# Altium schematic symbol library TG21_TX_Xu ly ma tran phim.SCHLIB: 40 symbols
Pins are listed as number, name and electrical type; pins without a type are passive.

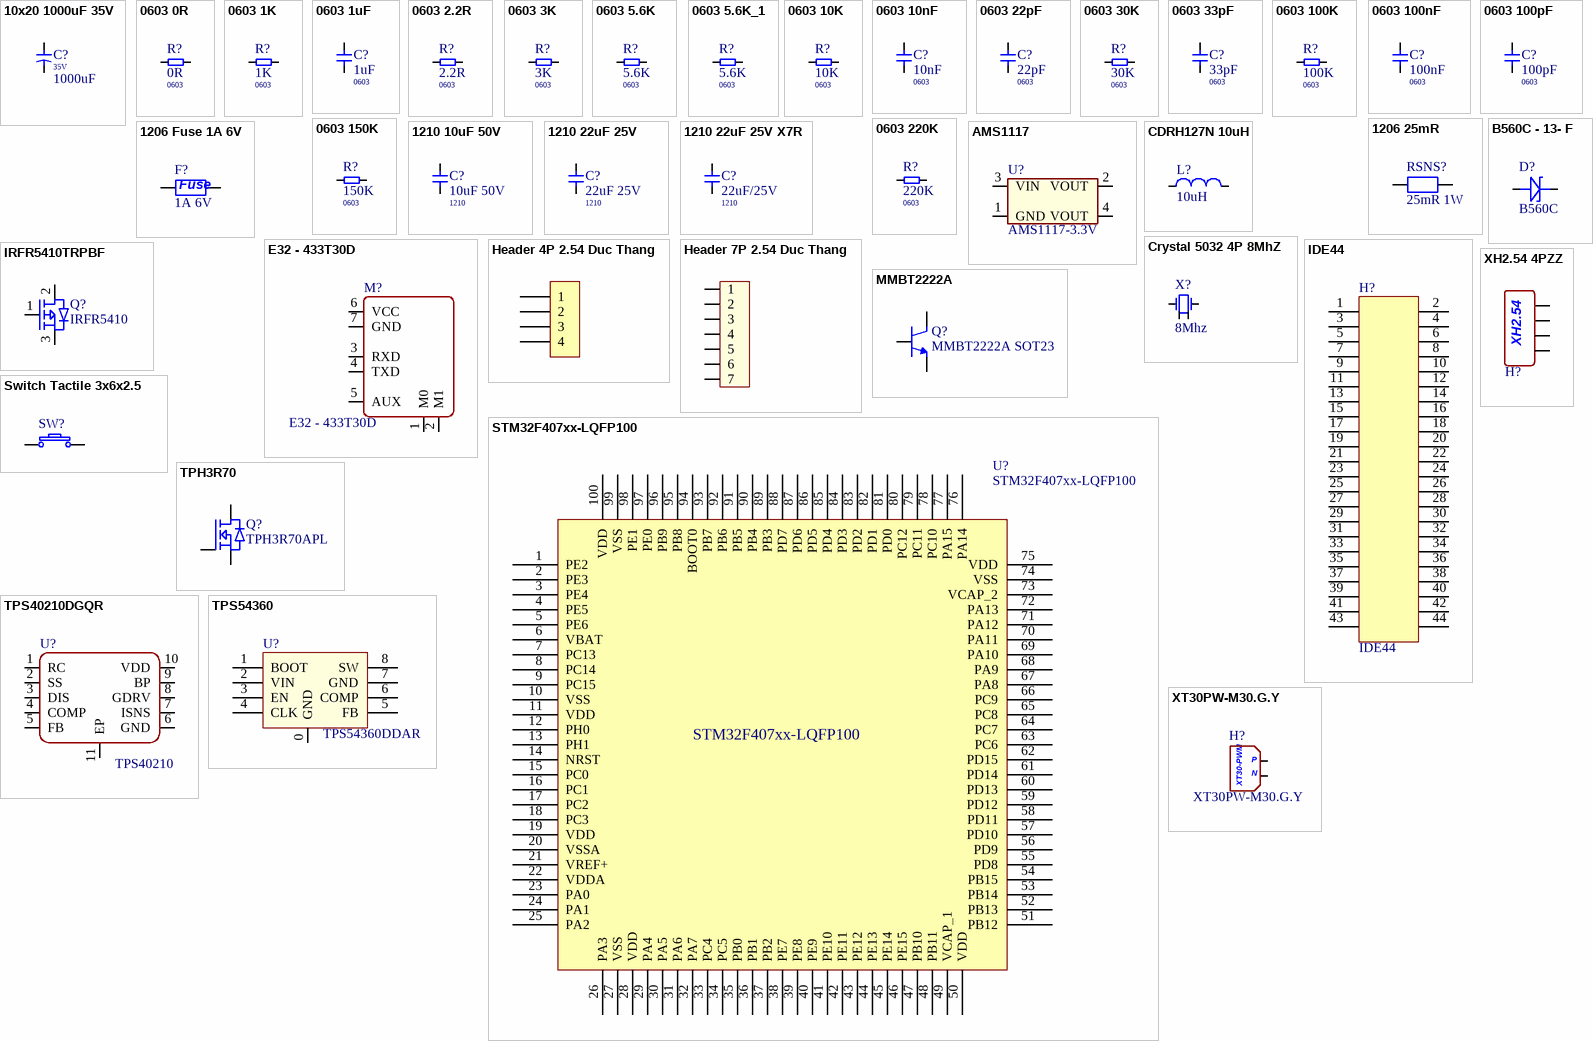
[diagram p0: symbols 10x20 1000uF 35V to XT30PW-M30.G.Y]

## 10x20 1000uF 35V
designator C?, comment Voltage: 35V  Capacitor: 1000uF  (hidden comment: 1000uF/35V)
1000uF 35V Aluminum Electrolytic Capacitors Through Hole,D10xL20mm 2000hrs@105℃; Manufacturer: Rubycon; Mfr. Part #: 35PX1000MEFC10X20; LCSC Part #: C136014; ComponentLink1Description: LCSC Link; ComponentLink1URL: https://www.lcsc.com/product-detail/C136014.html?s_z=n_35V%25201000uF%2520rubycon; Package: Through Hole,D10xL20mm; Type: Capacitor; Assembly Type: DIP Assembly
footprint 10x20 5.0 Capacitor
pins: 1, 2

## 0603 0R
designator R?, comment 0R  Package: 0603
100mW 0Ω 75V Thick Film Resistor ±1% ±100ppm/℃ 0603 Chip Resistor - Surface Mount RoHS; Mfr. Part #: RC0603FR-070RL; Manufacturer: YAGEO; LCSC Part #: C100044; ComponentLink1Description: LCSC Link; ComponentLink1URL: https://www.lcsc.com/product-detail/C100044.html?s_z=n_0R%25201%2525%25200603&spm=wm.ssy.bg.1.xh&lcsc_vid=FVcIBVBRElIPBFdUFgBYX10HEQJbUQVVQANfV1wFQQcxVlNRQ1RWVFVVRFVbUzsOAxUeFF5JWBYZEEoKFBINSQcJGk4dAgUUFAk%3D; Value: 0R
footprint 0603 Resistors
pins: 1, 2

## 0603 1K
designator R?, comment 1K  Package: 0603
100mW 1kΩ 75V Thick Film Resistor ±1% ±100ppm/℃ 0603 Chip Resistor - Surface Mount RoHS; Mfr. Part #: CRCW06031K00FKEA; Manufacturer: VISHAY; LCSC Part #: C844920; ComponentLink1Description: LCSC Link; ComponentLink1URL: https://www.lcsc.com/product-detail/C844920.html?s_z=n_0603%25201K; Value: 1K
footprint 0603 Resistors
pins: 1, 2

## 0603 1uF
designator C?, comment 1uF  Package: 0603
1uF ±10% 50V Ceramic Capacitor X5R 0603; Manufacturer: Samsung Electro-Mechanics; Mfr. Part #: CL10A105KB8NNNC; LCSC Part #: C15849; ComponentLink1Description: LCSC Link; ComponentLink1URL: https://www.lcsc.com/product-detail/C15849.html?s_z=n_1uF%25200603%25201%2525&spm=wm.ssy.bg.0.xh&lcsc_vid=FVcIBVBRElIPBFdUFgBYX10HEQJbUQVVQANfV1wFQQcxVlNRQlFeXlNXT1hdUDsOAxUeFF5JWBYZEEoKFBINSQcJGk4%3D
footprint 0603 MLCC
pins: 1, 2

## 0603 2.2R
designator R?, comment 2.2R  Package: 0603
100mW 2.2Ω 75V Thick Film Resistor ±1% ±100ppm/℃ 0603 Chip Resistor - Surface Mount RoHS; Mfr. Part #: FRC0805F2R20TS; Manufacturer: FOJAN; LCSC Part #: C2933402; ComponentLink1Description: LCSC Link; ComponentLink1URL: https://www.lcsc.com/product-detail/C2933402.html?s_z=n_2.2R%25201%2525&spm=wm.ssy.bg.6.xh&lcsc_vid=FVcIBVBRElIPBFdUFgBYX10HEQJbUQVVQANfV1wFQQcxVlNRQ1hYUFNVRlVWUzsOAxUeFF5JWBYZEEoKFBINSQcJGk4dAgUUFAk%3D; Value: 2.2R
footprint 0603 Resistors
pins: 1, 2

## 0603 3K
designator R?, comment 3K  Package: 0603
3kΩ ±1% 100mW 0603 Thick Film Resistor; Mfr. Part #: 0805W8F7503T5E; Manufacturer: UNI-ROYAL; LCSC Part #: C17817; ComponentLink1Description: LCSC Link; ComponentLink1URL: https://www.lcsc.com/product-detail/C2907033.html?s_z=n_3K%25201%2525%25200603&spm=wm.ssy.bg.0.xh&lcsc_vid=FVcIBVBRElIPBFdUFgBYX10HEQJbUQVVQANfV1wFQQcxVlNRQVBYUlZWRlRaUjsOAxUeFF5JWBYZEEoKFBINSQcJGk4dAgUUFAk%3D; ComponentLink2Description: Datasheet; ComponentLink2URL: https://www.lcsc.com/datasheet/C2907033.pdf?spm=wm.sxq.inf.ggs___wm.ssy.bg.0.xh&lcsc_vid=FVcIBVBRElIPBFdUFgBYX10HEQJbUQVVQANfV1wFQQcxVlNRQVBYUlZWRlRaUjsOAxUeFF5JWBYZEEoKFBINSQcJGk4dAgUUFAk%3D; Type: Resistor; Assembly Type: SMT Assembly; Value: 3K
footprint 0603 Resistors
pins: 1, 2

## 0603 5.6K
designator R?, comment 5.6K  Package: 0603
100mW 5.6KΩ 75V Thick Film Resistor ±1% ±100ppm/℃ 0603 Chip Resistor - Surface Mount RoHS; Mfr. Part #: FRC0603F5601TS; Manufacturer: FOJAN; Value: 5.1K; LCSC Part #: C2907046; ComponentLink1Description: LCSC Link; ComponentLink1URL: https://www.lcsc.com/product-detail/C2907046.html?s_z=n_5.6K%25200603&spm=wm.ssy.bg.0.xh&lcsc_vid=FVcIBVBRElIPBFdUFgBYX10HEQJbUQVVQANfV1wFQQcxVlNRQ1RWV1FeQVlfVDsOAxUeFF5JWBYZEEoKFBINSQcJGk4eFQsCAgIaSgADAwAHC0slQ1VdUFNIHxUDCw%3D%3D
footprint 0603 Resistors
pins: 1, 2

## 0603 5.6K_1
designator R?, comment 5.6K  Package: 0603
100mW 5.6KΩ 75V Thick Film Resistor ±1% ±100ppm/℃ 0603 Chip Resistor - Surface Mount RoHS; Mfr. Part #: FRC0603F5601TS; Manufacturer: FOJAN; LCSC Part #: C2907046; ComponentLink1Description: LCSC Link; ComponentLink1URL: https://www.lcsc.com/product-detail/C2907046.html?s_z=n_5.6K%25200603&spm=wm.ssy.bg.0.xh&lcsc_vid=FVcIBVBRElIPBFdUFgBYX10HEQJbUQVVQANfV1wFQQcxVlNRQ1RWV1FeQVlfVDsOAxUeFF5JWBYZEEoKFBINSQcJGk4eFQsCAgIaSgADAwAHC0slQ1VdUFNIHxUDCw%3D%3D; Value: 5.6K
footprint 0603 Resistors
pins: 1, 2

## 0603 10K
designator R?, comment 10K  Package: 0603
100mW 10kΩ 75V Thick Film Resistor ±1% ±100ppm/℃ 0603 Chip Resistor - Surface Mount RoHS; Manufacturer: VISHAY; Mfr. Part #: CRCW060310K0FKEA; LCSC Part #: C844918; ComponentLink1Description: LCSC Link; ComponentLink1URL: https://www.lcsc.com/product-detail/C844918.html?s_z=n_10K
footprint 0603 Resistors
pins: 1, 2

## 0603 10nF
designator C?, comment 10nF  Package: 0603
10nF ±10% 50V Ceramic Capacitor X7R 0603; Manufacturer: YAGEO; Mfr. Part #: CC0603KRX7R9BB103; LCSC Part #: C100042; ComponentLink1Description: LCSC Link; ComponentLink1URL: https://www.lcsc.com/product-detail/C100042.html?s_z=n_0603%252010nF&spm=wm.ssy.bg.0.xh&lcsc_vid=FVcIBVBRElIPBFdUFgBYX10HEQJbUQVVQANfV1wFQQcxVlNRQlFfVVBSRVNYXjsOAxUeFF5JWBYZEEoKFBINSQcJGk4eFQsCAgIaSgADAwAHC0slRFFaV1JQWQkaCgg%3D
footprint 0603 MLCC
pins: 1, 2

## 0603 22pF
designator C?, comment 22pF  Package: 0603
22pF ±5% 50V Ceramic Capacitor C0G 0603; Manufacturer: Samsung Electro-Mechanics; Mfr. Part #: CL10C220JB8NNNC; LCSC Part #: C1653; ComponentLink1Description: LCSC Link; ComponentLink1URL: https://www.lcsc.com/product-detail/C1653.html?s_z=n_22pF%252050V%25200603
footprint 0603 MLCC
pins: 1, 2

## 0603 30K
designator R?, comment 30K  Package: 0603
30kΩ ±1% 100mW 0603 Thick Film Resistor; Mfr. Part #: FRC0603F3002TS; Manufacturer: FOJAN; LCSC Part #: C2907025; ComponentLink1Description: LCSC Link; ComponentLink1URL: https://www.lcsc.com/product-detail/C2907025.html?s_z=n_q_t_0603%252030K&spm=wm.fly.bg.0.xh___wm.ssy.tc.0.tz&lcsc_vid=QQBdBlYAQFFWUgBXTlUPAgFQQQIIBQIHEQIPAgJRQFAxVlNRT1daV1JVTlhbUzsOAxUeFF5JWBYZEEoKFBINSQcJGk4dAgUUFAk%3D; ComponentLink2Description: Datasheet; ComponentLink2URL: https://www.lcsc.com/datasheet/C2907025.pdf?spm=wm.sxq.inf.ggs___wm.fly.bg.0.xh&lcsc_vid=QQBdBlYAQFFWUgBXTlUPAgFQQQIIBQIHEQIPAgJRQFAxVlNRT1daV1JVTlhbUzsOAxUeFF5JWBYZEEoKFBINSQcJGk4dAgUUFAk%3D; Type: Resistor; Assembly Type: SMT Assembly; Value: 30K
footprint 0603 Resistors
pins: 1, 2

## 0603 33pF
designator C?, comment 33pF  Package: 0603
33pF ±5% 50V Ceramic Capacitor NP0 0603; Manufacturer: YAGEO; Mfr. Part #: CC0603JRNPO9BN330; LCSC Part #: C107047; ComponentLink1Description: LCSC Link; ComponentLink1URL: https://www.lcsc.com/product-detail/C107047.html?s_z=n_33pF%25200603&spm=wm.ssy.bg.0.xh&lcsc_vid=FVcIBVBRElIPBFdUFgBYX10HEQJbUQVVQANfV1wFQQcxVlNRQ1RWV1xeR1ZZUTsOAxUeFF5JWBYZEEoKFBINSQcJGk4dAgUUFAk%3D
footprint 0603 MLCC
pins: 1, 2

## 0603 100K
designator R?, comment 100K  Package: 0603
100mW 100KΩ 75V Thick Film Resistor ±1% ±100ppm/℃ 0603 Chip Resistor - Surface Mount RoHS; Mfr. Part #: FRC0603F1003TS; Manufacturer: FOJAN; LCSC Part #: C2906980; ComponentLink1Description: LCSC Link; ComponentLink1URL: https://www.lcsc.com/product-detail/C2906980.html?s_z=n_0603%25201%2525%2520100K; Value: 100K
footprint 0603 Resistors
pins: 1, 2

## 0603 100nF
designator C?, comment 100nF  Package: 0603
100nF ±10% 50V Ceramic Capacitor X7R 0603; Manufacturer: YAGEO; Mfr. Part #: CC0603KRX7R9BB104; LCSC Part #: C14663; ComponentLink1Description: LCSC Link; ComponentLink1URL: https://www.lcsc.com/product-detail/C14663.html?s_z=n_0603%2520100nF
footprint 0603 MLCC
pins: 1, 2

## 0603 100pF
designator C?, comment 100pF  Package: 0603
100pF ±5% 50V Ceramic Capacitor C0G 0603; Manufacturer: Samsung Electro-Mechanics; Mfr. Part #: CL10C101JB8NNNC; LCSC Part #: C14858; ComponentLink1Description: LCSC Link; ComponentLink1URL: https://www.lcsc.com/product-detail/C14858.html?s_z=n_100pF%25200603&spm=wm.ssy.bg.0.xh&lcsc_vid=FVcIBVBRElIPBFdUFgBYX10HEQJbUQVVQANfV1wFQQcxVlNRQ1RWV1NSQ1dXXjsOAxUeFF5JWBYZEEoKFBINSQcJGk4eFQsCAgIaSgADAwAHC0slRVheUFRSQU8GEwkK
footprint 0603 MLCC
pins: 1, 2

## 0603 150K
designator R?, comment 150K  Package: 0603
100mW 150KΩ 75V Thick Film Resistor ±1% ±100ppm/℃ 0603 Chip Resistor - Surface Mount RoHS; Mfr. Part #: 0603WAF1503T5E; Manufacturer: UNI-ROYAL; LCSC Part #: C22807; ComponentLink1Description: LCSC Link; ComponentLink1URL: https://www.lcsc.com/product-detail/C22807.html?s_z=n_0603%25201%2525%2520150K; Value: 150K
footprint 0603 Resistors
pins: 1, 2

## 0603 220K
designator R?, comment 220K  Package: 0603
100mW 220KΩ 75V Thick Film Resistor ±1% ±100ppm/℃ 0603 Chip Resistor - Surface Mount RoHS; Mfr. Part #: FRC0603F2203TS; Manufacturer: FOJAN; LCSC Part #: C2907013; ComponentLink1Description: LCSC Link; ComponentLink1URL: https://www.lcsc.com/product-detail/C2907013.html?s_z=n_0603%25201%2525%2520220K; Value: 220K
footprint 0603 Resistors
pins: 1, 2

## 1206 25mR
designator RSNS?, comment 25mR 1W
1W 25mΩ ±50ppm/℃ ±1% 1206 Chip Resistor - Surface Mount RoHS; Manufacturer: JIERR; Mfr. Part #: JER1206F1R025; LCSC Part #: C46634441; Package: 1206; ComponentLink1Description: LCSC Link; ComponentLink1URL: https://www.lcsc.com/product-detail/C46634441.html?s_z=n_25mR%25201W&spm=wm.ssy.bg.1.stp&lcsc_vid=FVcIBVBRElIPBFdUFgBYX10HEQJbUQVVQANfV1wFQQcxVlNRQVBYVlFWT1lXVzsOAxUeFF5JWBYZEEoKFBINSQcJGk4eFQsCAgIaSgADAwAHC0slRlVZVVxIHxUDCw%3D%3D; ComponentLink2Description: Datasheet; ComponentLink2URL: https://www.lcsc.com/datasheet/C46634441.pdf?spm=wm.sxq.inf.ggs___wm.ssy.bg.1.stp&lcsc_vid=FVcIBVBRElIPBFdUFgBYX10HEQJbUQVVQANfV1wFQQcxVlNRQVBYVlFWT1lXVzsOAxUeFF5JWBYZEEoKFBINSQcJGk4eFQsCAgIaSgADAwAHC0slRlVZVVxIHxUDCw%3D%3D
footprint 1206 Resistor
pins: 1, 2

## 1206 Fuse 1A 6V
designator F?, comment 1A 6V
Polymeric PTC Resettable Fuse 6V 1A Surface Mount 1206; Manufacturer: BHFUSE; Mfr. Part #: BSMD1206-100-6V; LCSC Part #: C883129; Package: 1206; ComponentLink1Description: LCSC Link; ComponentLink1URL: https://www.lcsc.com/product-detail/C883129.html?s_z=n_q_Resettable%2520Fuse%25206V%25201A%25201206&spm=wm.fly.bg.0.xh&lcsc_vid=QQBdBlYAQFFWUgBXTlUPAgFQQQIIBQIHEQIPAgJRQFAxVlNRT1daVVdeT1JfUzsOAxUeFF5JWBYZEEoKFBINSQcJGk4NBhADEA4cHktXRVZADxALGw%3D%3D; ComponentLink2Description: Datasheet; ComponentLink2URL: NO; Type: Fuse; Assembly Type: SMT Assembly
footprint 1206 - Fuse
pins: 1, 2

## 1210 10uF 50V
designator C?, comment 10uF 50V  Package: 1210
10uF ±10% 50V Ceramic Capacitor X7R 1210; Manufacturer: Samsung Electro-Mechanics; Mfr. Part #: CL32B106KBJNNNE; LCSC Part #: C138687; ComponentLink1Description: LCSC Link; ComponentLink1URL: https://www.lcsc.com/product-detail/C138687.html?s_z=n_1210%252010uF
footprint 1210 CAPACITOR
pins: 1, 2

## 1210 22uF 25V
designator C?, comment 22uF 25V  Package: 1210
22uF ±10% 25V Ceramic Capacitor X7R 1210; Manufacturer: Samsung Electro-Mechanics; Mfr. Part #: CL32B226KAJNNNE; LCSC Part #: C309062; ComponentLink1Description: LCSC Link; ComponentLink1URL: https://www.lcsc.com/product-detail/C309062.html?s_z=n_22uF%25201210
footprint 1210 CAPACITOR
pins: 1, 2

## 1210 22uF 25V X7R
designator C?, comment 22uF/25V  Package: 1210
22uF ±10% 25V Ceramic Capacitor X7R 1210; Manufacturer: Samsung Electro-Mechanics; Mfr. Part #: CL32B226KAJNNNE; LCSC Part #: C309062; ComponentLink1Description: LCSC Link; ComponentLink1URL: https://www.lcsc.com/product-detail/C309062.html?s_z=n_22uF%25201210
footprint 1210 CAPACITOR
pins: 1, 2

## AMS1117
designator U?, comment AMS1117-3.3V
1.2A Fixed 3.3V Positive 15V SOT-223 Voltage Regulators - Linear, Low Drop Out (LDO) Regulators ROHS
footprint SOT223 - 4P
pins: 1 GND, 2 VOUT, 3 VIN, 4 VOUT

## B560C - 13- F
designator D?, comment B560C
Voltage： 60V Current： 5A; Manufacturer: DIODES; Mfr. Part #: B560C-13-F; LCSC Part #: C85100; Package: SMC(DO-214AB); ComponentLink1Description: LCSC Link; ComponentLink1URL: https://www.lcsc.com/product-detail/C85100.html?s_z=n_B560C
footprint SMC(DO-214AB)
pins: 1 Anode, 2 Kathode

## CDRH127N 10uH
designator L?, comment 10uH
5.4A 10uH 21.6mΩ ±20% SMD,12.2x12.2mm Fixed Inductors RoHS; Manufacturer: MINGSTAR; Mfr. Part #: CDRH127N-100M; LCSC Part #: C2832085; Package: SMD,12.2x12.2mm; ComponentLink1Description: LCSC Link; ComponentLink1URL: http://lcsc.com/product-detail/C2832085.html?s_z=n_CDRH127
footprint 12.2x12.2mm
pins: 1, 2

## Crystal 5032 4P 8MhZ
designator X?, comment 8Mhz
Crystal 8MHz ±20ppm 12pF SMD5032-4P; Manufacturer: SOSET; Mfr. Part #: 5032 8M 12PF 20PPM 4P; LCSC Part #: C5181482; Package: SMD5032-4P; ComponentLink1Description: LCSC Link; ComponentLink1URL: https://www.lcsc.com/product-detail/C5181482.html?s_z=n_5032%25208m
footprint 5032 4P
pins: 1, 2, 3, 4

## E32 - 433T30D
designator M?
8km UART Through Hole RF Transceiver Modules and Modems RoHS; Manufacturer: EBYTE; Mfr. Part #: E32-433T30D; LCSC Part #: C97351; Package: Through Hole; Type: Module; ComponentLink1Description: LCSC Link; ComponentLink1URL: https://www.lcsc.com/product-detail/C97351.html?s_z=n_E32%2520433T30D; ComponentLink2Description: Datasheet; ComponentLink2URL: https://www.lcsc.com/datasheet/C97351.pdf
footprint E32 - 433T30D
pins: 1 M0, 2 M1, 3 RXD, 4 TXD, 5 AUX, 6 VCC, 7 GND

## Header 4P 2.54 Duc Thang
designator H?
Cắm; Ten_Linh_Kien: Header 4P XH2.54-4P Đực Thẳng; Don_Vi: Con; Ma_Hang: MH001285; Chung_Loai: Cắm
footprint XH2.54M-4
pins: 1, 2, 3, 4

## Header 7P 2.54 Duc Thang
designator H?  (value not drawn)
Cắm; Ten_Linh_Kien: Header 7P XH2.54-7P Đực Thẳng; Don_Vi: Con; Ma_Hang: MH003369; Chung_Loai: Cắm
footprint XH2.54M-7
pins: 1, 2, 3, 4, 5, 6, 7

## IDE44
designator H?
footprint IDE
pins: 1, 2, 3, 4, 5, 6, 7, 8, 9, 10, 11, 12, 13, 14, 15, 16, 17, 18, 19, 20, 21, 22, 23, 24, 25, 26, 27, 28, 29, 30, 31, 32, 33, 34, 35, 36, 37, 38, 39, 40, 41, 42, 43, 44

## IRFR5410TRPBF
designator Q?, comment IRFR5410
P-Channel 100V 13A 66W Surface Mount DPAK(TO-252AA); Manufacturer: Infineon; Mfr. Part #: IRFR5410TRPBF; LCSC Part #: C3018; Package: DPAK(TO-252AA); ComponentLink1Description: LCSC Link; ComponentLink1URL: https://www.lcsc.com/product-detail/C3018.html?s_z=n_IRFR5410TRPBF
footprint TO - 252
pins: 1 G, 2 D, 3 S

## MMBT2222A
designator Q?, comment MMBT2222A SOT23
Bipolar (BJT) Transistor NPN 20V 350mA 300MHz 300mW Surface Mount SOT-23; Manufacturer: JSMSEMI; Mfr. Part #: MMBT2222A; LCSC Part #: C916372; Package: SOT-23; ComponentLink1Description: LCSC Link; ComponentLink1URL: https://www.lcsc.com/product-detail/C916372.html?s_z=n_mmbt222&spm=wm.ssy.bg.4.xh&lcsc_vid=FVcIBVBRElIPBFdUFgBYX10HEQJbUQVVQANfV1wFQQcxVlNRQ1hYVFJVRlldXjsOAxUeFF5JWBYZEEoKFBINSQcJGk4dAgUUFAk%3D
footprint SOT23_HVT
pins: 1 B, 2 E, 3 C

## STM32F407xx-LQFP100
designator U?
footprint STM32_LQFP100 (TSQFP, 100-Leads, Body 14.00x14.00mm, Pitch 0.50mm, IPC Medium Density)
pins: 1 PE2, 2 PE3, 3 PE4, 4 PE5, 5 PE6, 6 VBAT, 7 PC13, 8 PC14, 9 PC15, 10 VSS, 11 VDD, 12 PH0, 13 PH1, 14 NRST, 15 PC0, 16 PC1, 17 PC2, 18 PC3, 19 VDD, 20 VSSA, 21 VREF+, 22 VDDA, 23 PA0, 24 PA1, 25 PA2, 26 PA3, 27 VSS, 28 VDD, 29 PA4, 30 PA5, 31 PA6, 32 PA7, 33 PC4, 34 PC5, 35 PB0, 36 PB1, 37 PB2, 38 PE7, 39 PE8, 40 PE9, 41 PE10, 42 PE11, 43 PE12, 44 PE13, 45 PE14, 46 PE15, 47 PB10, 48 PB11, 49 VCAP_1, 50 VDD, 51 PB12, 52 PB13, 53 PB14, 54 PB15, 55 PD8, 56 PD9, 57 PD10, 58 PD11, 59 PD12, 60 PD13, 61 PD14, 62 PD15, 63 PC6, 64 PC7, 65 PC8, 66 PC9, 67 PA8, 68 PA9, 69 PA10, 70 PA11, 71 PA12, 72 PA13, 73 VCAP_2, 74 VSS, 75 VDD, 76 PA14, 77 PA15, 78 PC10, 79 PC11, 80 PC12, 81 PD0, 82 PD1, 83 PD2, 84 PD3, 85 PD4, 86 PD5, 87 PD6, 88 PD7, 89 PB3, 90 PB4, 91 PB5, 92 PB6, 93 PB7, 94 BOOT0, 95 PB8, 96 PB9, 97 PE0, 98 PE1, 99 VSS, 100 VDD

## Switch Tactile 3x6x2.5
designator SW?, comment HX 3x6x2.5A-2.5N  (value not drawn)
Tactile Switch SPST 250gf 2.5mm SMD (SMT) Tab 6mm x 3.6mm Surface Mount; Manufacturer: hanxia; Mfr. Part #: HX 3x6x2.5A-2.5N; LCSC Part #: C36498960; Package: SMD,6x3mm; ComponentLink1Description: LCSC Link; ComponentLink1URL: https://www.lcsc.com/product-detail/C36498960.html?s_z=n_q_p_3x6x2.5&spm=wm.ssy.bg.0.xh&lcsc_vid=QQBdBlYAQFFWUgBXTlUPAgFQQQIIBQIHEQIPAgJRQFAxVlNRT1daU1NWQVBbVTsOAxUeFF5JWBYZEEoKFBINSQcJGk4NBhADEA4cHktXRVZADxALGw%3D%3D; ComponentLink2Description: Datasheet; ComponentLink2URL: https://www.lcsc.com/datasheet/C36498960.pdf?spm=wm.sxq.inf.ggs___wm.ssy.bg.0.xh&lcsc_vid=QQBdBlYAQFFWUgBXTlUPAgFQQQIIBQIHEQIPAgJRQFAxVlNRT1daU1NWQVBbVTsOAxUeFF5JWBYZEEoKFBINSQcJGk4NBhADEA4cHktXRVZADxALGw%3D%3D; Type: Switch; Assembly Type: SMT Assembly
footprint SW - 2P SMD
pins: 1, 2

## TPH3R70
designator Q?, comment TPH3R70APL
Manufacturer: TOSHIBA; Mfr. Part #: TPH3R70APL; LCSC Part #: C556308; Package: SO-8; ComponentLink1Description: LCSC Link; ComponentLink1URL: https://www.lcsc.com/product-detail/C556308.html?s_z=n_tph3R70
footprint SOP Advanced
pins: 1 S, 2 S, 3 S, 4 G, 5 D, 6 D, 7 D, 8 D, TAB D

## TPS40210DGQR
designator U?, comment TPS40210
1 MSOP-10-EP DC DC Switching Controllers RoHS; Manufacturer: TI; Mfr. Part #: TPS40210DGQR; LCSC Part #: C14728; Package: MSOP-10-EP; ComponentLink1Description: LCSC Link; ComponentLink1URL: https://www.lcsc.com/product-detail/C14728.html?s_z=n_TPS40210&spm=wm.ssy.bg.0.xh&lcsc_vid=FVcIBVBRElIPBFdUFgBYX10HEQJbUQVVQANfV1wFQQcxVlNRQVBbX1FeRllYUDsOAxUeFF5JWBYZEEoKFBINSQcJGk4dAgUUFAk%3D; Type: IC; Assembly Type: SMT Assembly; ComponentLink2Description: Datasheet; ComponentLink2URL: https://www.lcsc.com/datasheet/C14728.pdf?spm=wm.sxq.inf.ggs___wm.ssy.bg.0.xh&lcsc_vid=FVcIBVBRElIPBFdUFgBYX10HEQJbUQVVQANfV1wFQQcxVlNRQVBbX1FeRllYUDsOAxUeFF5JWBYZEEoKFBINSQcJGk4dAgUUFAk%3D
footprint MSOP 10
pins: 1 RC, 2 SS, 3 DIS, 4 COMP, 5 FB, 6 GND, 7 ISNS, 8 GDRV, 9 BP, 10 VDD, 11 EP

## TPS54360
designator U?, comment TPS54360DDAR
60V Input, 3.5A Output Step-Down DC-DC Converter; Manufacturer: TI; Mfr. Part #: TPS54360DDAR; LCSC Part #: C44377; Package: SOIC-8-EP; ComponentLink1Description: LCSC Link; ComponentLink1URL: https://www.lcsc.com/product-detail/C44377.html?s_z=n_tps54360&spm=wm.ssy.bg.0.xh&lcsc_vid=FVcIBVBRElIPBFdUFgBYX10HEQJbUQVVQANfV1wFQQcxVlNRQ1RWV1ZTTlRdVzsOAxUeFF5JWBYZEEoKFBINSQcJGk4dAgUUFAk%3D
footprint SOIC8
pins: 0 GND, 1 BOOT, 2 VIN, 3 EN, 4 CLK, 5 FB, 6 COMP, 7 GND, 8 SW

## XH2.54 4PZZ
designator H?, comment XY-XH2.54-4PZZ  (value not drawn)
XH 1 4P -25℃~+85℃ 2.54mm 4 2A 250V 1x4P Through Hole,P=2.54mm Headers, Male Pins RoHS; Manufacturer: XYECONN; Mfr. Part #: XY-XH2.54-4PZZ; LCSC Part #: C53201003; ComponentLink1Description: LCSC Link; ComponentLink1URL: https://www.lcsc.com/product-detail/C53201003.html?s_z=n_XH2.54%25204P; Package: Through Hole,P=2.54mm; Type: Header; Assembly Type: DIP Assembly; ComponentLink2Description: Datasheet; ComponentLink2URL: https://www.lcsc.com/datasheet/C53201003.pdf
footprint XH2.54 - 4PZZ
pins: 1, 2, 3, 4
text: XH2.54

## XT30PW-M30.G.Y
designator H?
AMASS XT30PW-M30.G.Y; Manufacturer: Changzhou Amass Elec; Mfr. Part #: XT30PW-M30.G.Y; LCSC Part #: C431092; ComponentLink1Description: LCSC Link; ComponentLink1URL: https://www.lcsc.com/product-detail/C431092.html?s_z=n_q_xt30pw&spm=wm.fly.bg.0.xh&lcsc_vid=QQBdBlYAQFFWUgBXTlUPAgFQQQIIBQIHEQIPAgJRQFAxVlNRT1ddX1xWQlNaUzsOAxUeFF5JWBYZEEoKFBINSQcJGk4eFQsCAgIaSgADAwAHC0slQllfX11TQk8GEwkK; ComponentLink2Description: Datasheet; ComponentLink2URL: https://www.lcsc.com/datasheet/C431092.pdf?spm=wm.sxq.inf.ggs___wm.fly.bg.0.xh&lcsc_vid=QQBdBlYAQFFWUgBXTlUPAgFQQQIIBQIHEQIPAgJRQFAxVlNRT1ddX1xWQlNaUzsOAxUeFF5JWBYZEEoKFBINSQcJGk4eFQsCAgIaSgADAwAHC0slQllfX11TQk8GEwkK; Type: Connector/Header; Assembly Type: DIP Assembly; Value: XT30PW-M30.G.Y
footprint XT30
pins: 1, 2
text: P; N; XT30-PWM